# EAGLE library part AS-ITM-00403 (library tinycircuits)
MOD BLE 4.2 NORDIC NRF52832 SOC
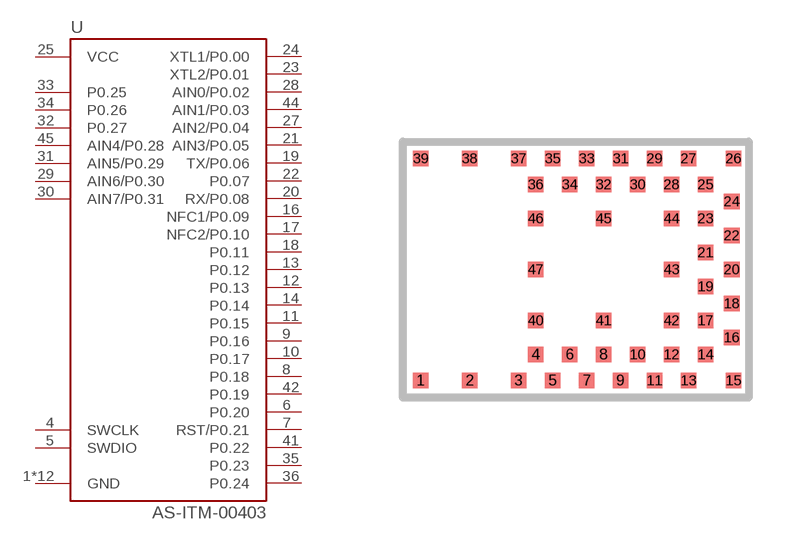
[diagram p164: symbol with the pads of BMD-350; footprint BMD-350]

Designator prefix U

## AS-ITM-00403 (PARTNO: AS-ITM-00403; VALUE: BMD-350)  [BMD-350]
1  GND
2  GND
3  GND
4  SWCLK
5  SWDIO
6  P0.20
7  RST/P0.21
8  P0.18
9  P0.16
10  P0.17
11  P0.15
12  P0.13
13  P0.12
14  P0.14
15  GND
16  NFC1/P0.09
17  NFC2/P0.10
18  P0.11
19  TX/P0.06
20  RX/P0.08
21  AIN3/P0.05
22  P0.07
23  XTL2/P0.01
24  XTL1/P0.00
25  VCC
26  GND
27  AIN2/P0.04
28  AIN0/P0.02
29  AIN6/P0.30
30  AIN7/P0.31
31  AIN5/P0.29
32  P0.27
33  P0.25
34  P0.26
35  P0.23
36  P0.24
37  GND
38  GND
39  GND
40  GND
41  P0.22
42  P0.19
43  GND
44  AIN1/P0.03
45  AIN4/P0.28
46  GND
47  GND

## Footprint BMD-350 (pad centres in mm)
smd 0.39 x 0.39: 1 -3.873,-2.775; 2 -2.653,-2.775; 3 -1.425,-2.775; 4 -1,-2.125; 5 -0.575,-2.775; 6 -0.15,-2.125; 7 0.275,-2.775; 8 0.7,-2.125; 9 1.125,-2.775; 10 1.55,-2.125; 11 1.975,-2.775; 12 2.4,-2.125; 13 2.825,-2.775; 14 3.25,-2.125; 15 3.95,-2.775; 16 3.905,-1.7; 17 3.25,-1.275; 18 3.905,-0.85; 19 3.25,-0.425; 20 3.905,0; 21 3.25,0.425; 22 3.905,0.85; 23 3.25,1.275; 24 3.905,1.7; 25 3.25,2.125; 26 3.95,2.775; 27 2.825,2.775; 28 2.4,2.125; 29 1.975,2.775; 30 1.55,2.125; 31 1.125,2.775; 32 0.7,2.125; 33 0.275,2.775; 34 -0.15,2.125; 35 -0.575,2.775; 36 -1,2.125; 37 -1.425,2.775; 38 -2.653,2.775; 39 -3.873,2.775; 40 -1,-1.275; 41 0.7,-1.275; 42 2.4,-1.275; 43 2.4,0; 44 2.4,1.275; 45 0.7,1.275; 46 -1,1.275; 47 -1,0